# Altium footprint library PcbLib1.PcbLib: 12 footprints
Each footprint in its own frame and in the unit in brackets; x right, y up, seen from the top. Pads: shape width x height; smd on the part's side, far side on the other; paste and mask are expansions set on the pad; w line width, h text height; cw(c..) or ccw(c..) is an arc to the next point about the centre after c.
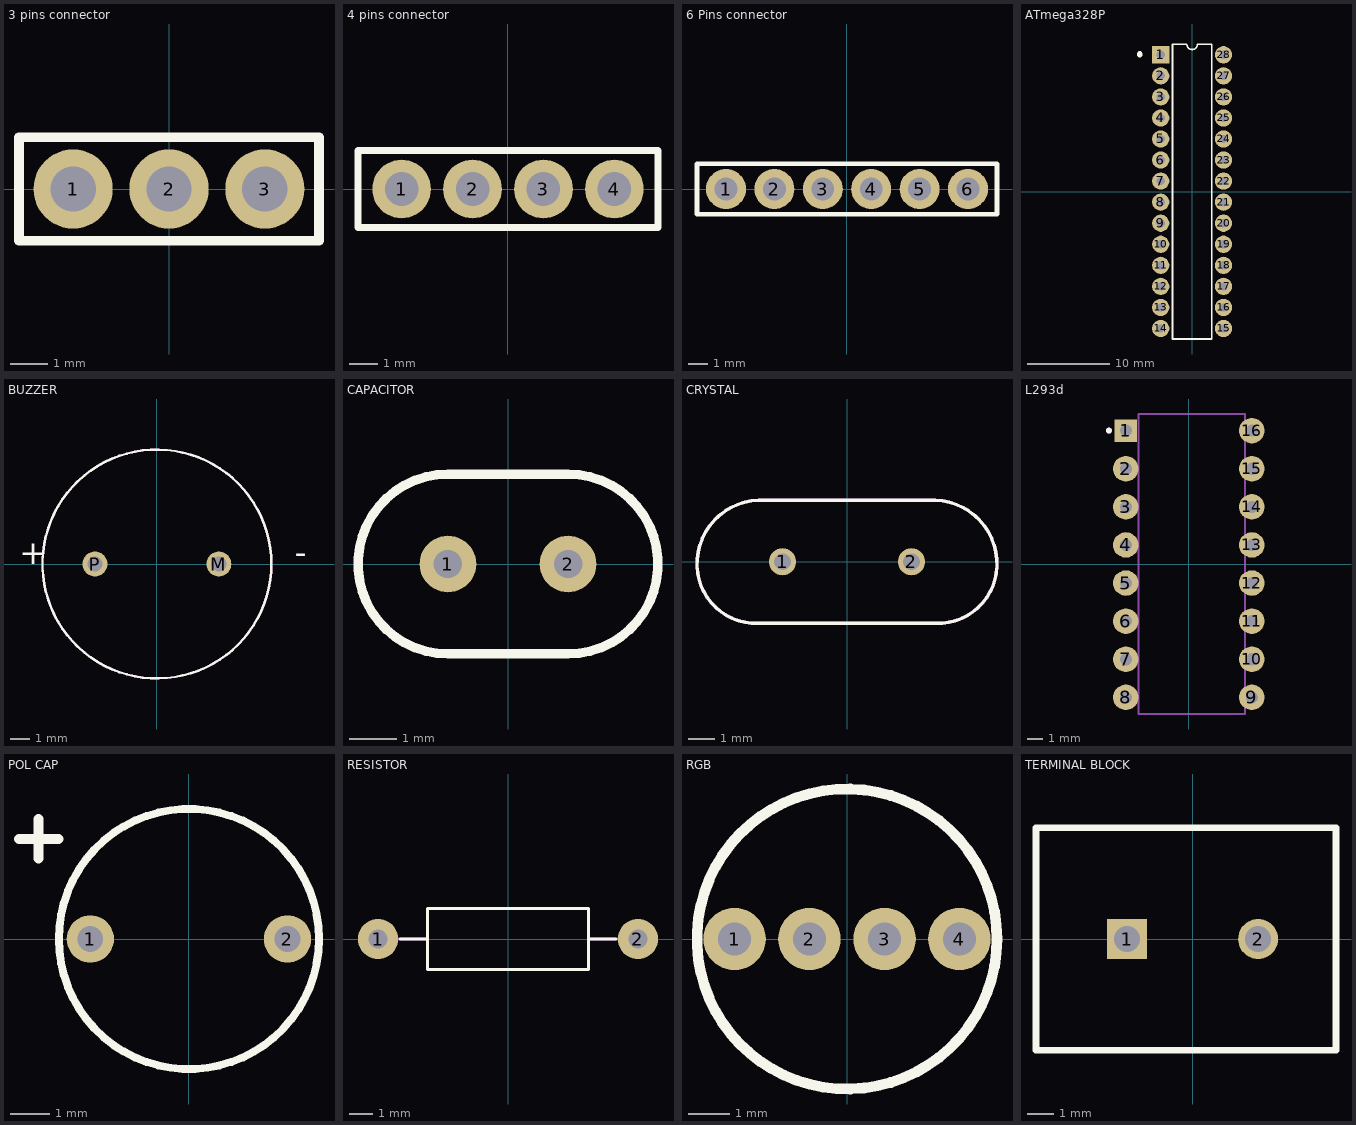
[diagram p0: the footprints below, top view; thin cyan lines are the x and y axes]

## 3 pins connector [mm] "3 pins connector"
pads (3):
  round 2.1 hole 1.2: 1(-2.54,0) 2(0,0) 3(2.54,0)
Top Overlay:
  lines w0.254: -3.973,-1.373 3.973,-1.373 3.973,1.373 -3.973,1.373 -3.973,-1.373

## 4 pins connector [mm] "4 pins connector"
pads (4):
  round 2.1 hole 1.2: 1(-3.81,0) 2(-1.27,0) 3(1.27,0) 4(3.81,0)
Top Overlay:
  lines w0.254: -5.373,-1.373 5.373,-1.373 5.373,1.373 -5.373,1.373 -5.373,-1.373

## 6 Pins connector [mm] "6 pins connector"
pads (6):
  round 2.1 hole 1.2: 1(-6.35,0) 2(-3.81,0) 3(-1.27,0) 4(1.27,0) 5(3.81,0) 6(6.35,0)
Top Overlay:
  lines w0.254: -7.873,-1.323 7.873,-1.323 7.873,1.323 -7.873,1.323 -7.873,-1.323
3D body "1x6.STEP": height 8.7, standoff -8.94, extent -7.62,-1.3 7.62,1.24

## ATmega328P [mm] "IC base"
pads (28):
  rect 2.1x2.1 hole 1: 1(-3.82,16.64)
  round 2.1 hole 1: 2(-3.82,14.08) 3(-3.82,11.52) 4(-3.82,8.96) 5(-3.82,6.4) 6(-3.82,3.84) 7(-3.82,1.28) 8(-3.82,-1.28) 9(-3.82,-3.84) 10(-3.82,-6.4) 11(-3.82,-8.96) 12(-3.82,-11.52) 13(-3.82,-14.08) 14(-3.82,-16.64) 15(3.82,-16.64) 16(3.82,-14.08) 17(3.82,-11.52) 18(3.82,-8.96) 19(3.82,-6.4) 20(3.82,-3.84) 21(3.82,-1.28) 22(3.82,1.28) 23(3.82,3.84) 24(3.82,6.4) 25(3.82,8.96) 26(3.82,11.52) 27(3.82,14.08) 28(3.82,16.64)
Top Overlay:
  lines w0.2: -2.385,-17.92 2.385,-17.92 2.385,17.92 0.64,17.92 cw(c0,17.92) -0.64,17.92 -2.385,17.92 -2.385,-17.92
  lines w0.7: -6.36,16.64 -6.36,16.74
3D body "ATMEGA328-PU--3DModel-STEP-56544.STEP": height 4.57, standoff -3.43, extent -3.95,-17.335 3.95,17.336

## BUZZER [mm] "buzzer"
pads (2):
  round 1.308 hole 0.8: M(3.25,0) P(-3.25,0)
Top Overlay:
  circle w0.127: c0,0 r6
  text "-" at 7.225,0 h1.27
  text "+" at -7.23,0 h1.28
Mechanical 13:
  circle w0.127: c0,0 r6
3D body "CUI_DEVICES_CCG-1206.step": height 10, standoff -3.3, extent -6,-6 6,6

## CAPACITOR [mm] "capacitor"
pads (2):
  round 1.2 hole 0.6: 1(-1.27,0) 2(1.27,0)
Top Overlay:
  lines w0.2: -1.27,-1.9 cw(c-1.27,0) -1.27,1.9 1.27,1.9 cw(c1.27,0) 1.27,-1.9 -1.27,-1.9
3D body "AR205F104K4R.STEP": height 6.08, standoff -24.4, extent -2.56,-1.587 2.52,1.588

## CRYSTAL [mm] "crystal"
pads (2):
  round 1.03 hole 0.63: 1(-2.44,0) 2(2.44,0)
Top Overlay:
  lines w0.127: -5.675,-0.169 cw(c-3.26,-0.085) -3.344,2.33 ; -5.675,-0.168 ccw(c-3.435,-0.09) -3.357,-2.33 ; -3.35,-2.33 3.35,-2.33 ; -3.35,2.33 3.35,2.33 ; 3.344,2.33 cw(c3.26,-0.085) 5.675,-0.169 ; 3.357,-2.33 ccw(c3.435,-0.09) 5.675,-0.168
Mechanical 13:
  lines w0.127: -5.675,-0.169 cw(c-3.26,-0.085) -3.344,2.33 ; -5.675,-0.168 ccw(c-3.435,-0.09) -3.357,-2.33 ; -3.35,-2.33 3.35,-2.33 ; -3.35,2.33 3.35,2.33 ; 3.344,2.33 cw(c3.26,-0.085) 5.675,-0.169 ; 3.357,-2.33 ccw(c3.435,-0.09) 5.675,-0.168
3D body "ECS-135-S-1.STEP": height 13.66, standoff -12.5, extent -5.671,-2.5 5.679,2.5

## L293d [mm] "L293d motor driver"
pads (16):
  rect 1.5x1.5 / inner round 1.25 / far side rect 1.25x1.25 hole 0.8: 1(-4.2,8.89)
  round 1.7 hole 0.8: 2(-4.2,6.35) 3(-4.2,3.81) 4(-4.2,1.27) 5(-4.2,-1.27) 6(-4.2,-3.81) 7(-4.2,-6.35) 8(-4.2,-8.89) 9(4.2,-8.89) 10(4.2,-6.35) 11(4.2,-3.81) 12(4.2,-1.27) 13(4.2,1.27) 14(4.2,3.81) 15(4.2,6.35) 16(4.2,8.89)
Top Overlay:
  circle w0.2: c-5.325,8.89 r0.1
Mechanical 13:
  circle w0.2: c-5.325,8.89 r0.1
  lines w0.127: -3.35,-10 3.75,-10 3.75,10 -3.35,10 -3.35,-10
3D body "step_temp.STEP": height 5.1, standoff -3.3, extent -4.62,-10 4.62,10

## POL CAP [mm] "polarized capacitor"
pads (2):
  round 1.2 hole 0.65: 1(-2.5,0) 2(2.5,0)
Top Overlay:
  circle w0.2: c0,0 r3.3
  lines w0.254: -4.31,2.54 -3.81,2.54 ; -3.81,2.04 -3.81,2.54 ; -3.81,3.04 -3.81,2.54 ; -3.31,2.54 -3.81,2.54
3D body "EEUEB1J100SB.STEP": height 12.5, standoff -15.5, extent -2.71,-2.497 2.79,2.498

## RESISTOR [mm]
pads (2):
  round 1.7 hole 0.8: 1(-5.5,0) 2(5.5,0)
Top Overlay:
  lines w0.127: -4.58,0 -3.4,0 ; 4.58,0 3.4,0 ; -3.4,0 -3.4,-1.3 3.4,-1.3 3.4,0 ; -3.4,0 -3.4,1.3 3.4,1.3 3.4,0
Mechanical 13:
  lines w0.127: -4.9,0 -3.4,0 ; 4.9,0 3.4,0 ; -3.4,0 -3.4,-1.3 3.4,-1.3 3.4,0 ; -3.4,0 -3.4,1.3 3.4,1.3 3.4,0
3D body "step_temp.STEP": height 2.6, standoff -25.53, extent -5.775,-1.3 5.775,1.3

## RGB [mm] "RGB led indicator"
pads (4):
  round 1.5 hole 0.8: 1(-2.7,0) 2(-0.9,0) 3(0.9,0) 4(2.7,0)
Top Overlay:
  circle w0.254: c0,0 r3.6

## TERMINAL BLOCK [mm] "terminal block"
pads (2):
  rect 1.524x1.524 hole 1 square: 1(-2.5,0)
  round 1.524 hole 1 square: 2(2.5,0)
Top Overlay:
  lines w0.254: -5.973,-4.245 5.473,-4.245 5.473,4.245 -5.973,4.245 -5.973,-4.245
3D body "282836-2--3DModel-STEP-269445.STEP": height 10, standoff -3.5, extent -5.6,-4.1 5,4.1